# Altium footprint library SolarNode.PcbLib: 76 footprints (part 3 of 5)
Each footprint in its own frame and in the unit in brackets; x right, y up, seen from the top. Pads: shape width x height; smd on the part's side, far side on the other; paste and mask are expansions set on the pad; w line width, h text height; cw(c..) or ccw(c..) is an arc to the next point about the centre after c.
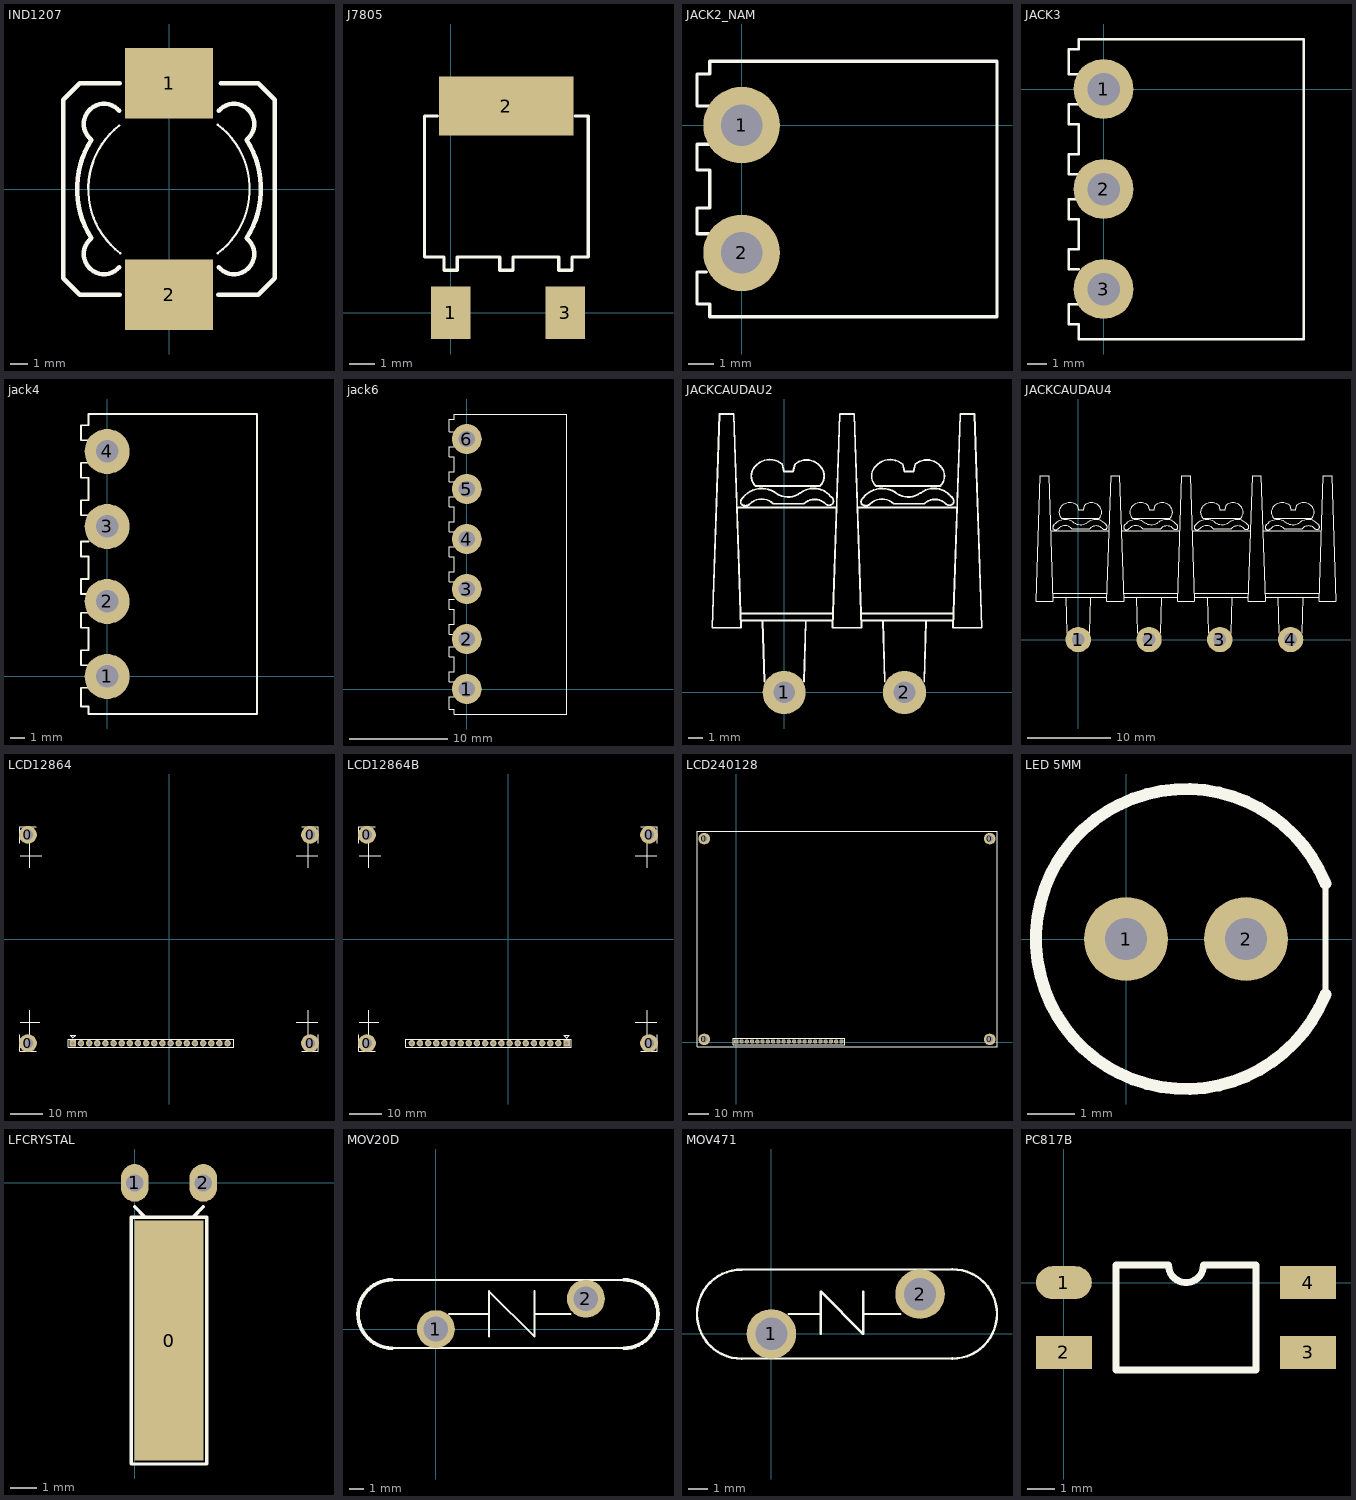
[diagram p2: the footprints below, top view; thin cyan lines are the x and y axes]

## IND1207 [mm] "inductor 1207"
pads (2):
  rect 5x4 smd: 1(0,6) 2(0,-6)
Top Overlay:
  lines w0.127: -2.825,3.595 ccw(c0,0) -2.763,-3.642 ; 2.763,-3.642 ccw(c0,0) 2.763,3.642
  lines w0.254: -4.427,-2.815 ccw(c-3.683,-3.683) -2.815,-4.427 ; -4.427,2.815 cw(c-3.683,3.683) -2.815,4.427 ; -4.395,-2.795 cw(c0,0) -4.395,2.795 ; -2.794,-6 -5.049,-6 -6,-5.049 -6,5.049 -5.049,6 -2.794,6 ; 2.794,-6 5.049,-6 6,-5.049 6,5.049 5.049,6 2.921,6 ; 2.815,-4.427 ccw(c3.683,-3.683) 4.427,-2.815 ; 2.815,4.427 cw(c3.683,3.683) 4.427,2.815 ; 4.395,-2.795 ccw(c0,0) 4.395,2.795

## J7805 [mil]
pads (3):
  rect 60x80 smd: 1(0,0) 3(175,0)
  rect 205x90 smd: 2(85,315)
Top Overlay:
  lines w5: -20,300 -40,300 -40,85 -10,85 -10,65 10,65 10,85 75,85 75,65 95,65 95,85 165,85 165,65 185,65 185,85 210,85 210,300 190,300

## JACK2_NAM [mil]
pads (2):
  round 120 hole 65: 1(0,0) 2(0,-200)
Top Overlay:
  lines w5: -55,-230 -70,-230 -70,-280 -50,-280 -50,-300 230,-300 400,-300 400,100 230,100 -50,100 -50,80 -70,80 -70,30 -50,30 ; -50,-170 -70,-170 -70,-130 -50,-130 -50,-70 -70,-70 -70,-60 -70,-30 -50,-30

## JACK3 [mil]
pads (3):
  round 120 hole 65: 1(0,0) 2(0,-200) 3(0,-400)
Top Overlay:
  lines w5: -50,-430 -70,-430 -70,-460 -70,-470 -50,-470 -50,-500 400,-500 400,100 230,100 -50,100 -50,80 -70,80 -70,30 -50,30 ; -50,-360 -70,-360 -70,-320 -50,-320 -50,-260 -70,-260 -70,-250 -70,-220 -50,-220 ; -50,-170 -70,-170 -70,-130 -50,-130 -50,-70 -70,-70 -70,-60 -70,-30 -50,-30

## jack4 [mil]
pads (4):
  round 120 hole 60: 1(0,0) 2(0,200) 3(0,400) 4(0,600)
Top Overlay:
  lines w5: -50,-30 -70,-30 -70,-80 -50,-80 -50,-100 230,-100 400,-100 400,700 -50,700 -50,670 -70,670 -70,660 -70,630 -50,630 ; -50,30 -70,30 -70,60 -70,70 -50,70 -50,130 -70,130 -70,170 -50,170 ; -50,220 -70,220 -70,250 -70,260 -50,260 -50,320 -70,320 -70,360 -50,360 ; -50,430 -70,430 -70,460 -70,470 -50,470 -50,530 -70,530 -70,570 -50,570

## jack6 [mil]
pads (6):
  round 120 hole 65: 1(0,0) 2(0,200) 3(0,400) 4(0,600) 5(0,800) 6(0,1000)
Top Overlay:
  lines w5: -55,1030 -70,1030 -70,1080 -50,1080 -50,1100 230,1100 400,1100 400,-100 230,-100 -50,-100 -50,-80 -70,-80 -70,-30 -50,-30 ; -50,30 -70,30 -70,60 -70,70 -50,70 -50,130 -70,130 -70,170 -50,170 ; -50,220 -70,220 -70,250 -70,260 -50,260 -50,320 -70,320 -70,360 -50,360 ; -50,430 -70,430 -70,460 -70,470 -50,470 -50,530 -70,530 -70,570 -50,570 ; -50,630 -70,630 -70,660 -70,670 -50,670 -50,730 -70,730 -70,770 -50,770 ; -50,830 -70,830 -70,860 -70,870 -50,870 -50,930 -70,930 -70,970 -50,970

## JACKCAUDAU2 [mil] "9.5mm 2 terminal block connnetor - screw M3"
pads (2):
  round 120 hole 60: 1(0,0) 2(335,0)
Top Overlay:
  lines w5: -130,515 145,515 ; -120,200 135,200 ; -120,220 135,220 ; -120,535 cw(c-61.97,499.86) -26.82,557.89 ccw(c10.5,600.99) 44.71,555.39 ; -116.18,541.18 ccw(c-105,530) -120,525 ccw(c-107.5,537.5) -95,525 cw(c-62.5,492.5) -30,525 55,525 cw(c85,495) 115,525 ccw(c125,535) 135,525 ccw(c122.5,532.5) 130,545 ccw(c82.5,507.5) 45,555 ; -60,200 -55,30 ; 55,30 60,200 ; 205,515 480,515 ; 215,200 470,200 ; 215,220 470,220 ; 215,535 cw(c273.04,499.86) 308.18,557.89 ccw(c345.5,600.99) 379.71,555.39 ; 218.82,541.18 ccw(c230,530) 215,525 ccw(c227.5,537.5) 240,525 cw(c272.5,492.5) 305,525 390,525 cw(c420,495) 450,525 ccw(c460,535) 470,525 ccw(c457.5,532.5) 465,545 ccw(c417.5,507.5) 380,555 ; 275,200 280,30 ; 390,30 395,200 ; -200,180 -180,775 -140,775 -120,180 -200,180 ; -80,575 cw(c-52.5,602.5) -80,630 cw(c-40,595) -5,635 0,615 25,615 30,635 cw(c62.5,597.5) 100,630 cw(c72.5,602.5) 100,575 -80,575 ; 135,180 155,775 195,775 215,180 135,180 ; 255,575 cw(c282.5,602.5) 255,630 cw(c295,595) 330,635 335,615 360,615 365,635 cw(c397.5,597.5) 435,630 cw(c407.5,602.5) 435,575 255,575 ; 470,180 490,775 530,775 550,180 470,180

## JACKCAUDAU4 [mil]
pads (4):
  round 120 hole 60: 1(0,0) 2(335,0) 3(670,0) 4(1005,0)
Top Overlay:
  lines w5: -130,515 145,515 ; -120,200 135,200 ; -120,220 135,220 ; -120,535 cw(c-61.97,499.86) -26.82,557.89 ccw(c10.5,600.99) 44.71,555.39 ; -116.18,541.18 ccw(c-105,530) -120,525 ccw(c-107.5,537.5) -95,525 cw(c-62.5,492.5) -30,525 55,525 cw(c85,495) 115,525 ccw(c125,535) 135,525 ccw(c122.5,532.5) 130,545 ccw(c82.5,507.5) 45,555 ; -60,200 -55,30 ; 55,30 60,200 ; 205,515 480,515 ; 215,200 470,200 ; 215,220 470,220 ; 215,535 cw(c273.04,499.86) 308.18,557.89 ccw(c345.5,600.99) 379.71,555.39 ; 218.82,541.18 ccw(c230,530) 215,525 ccw(c227.5,537.5) 240,525 cw(c272.5,492.5) 305,525 390,525 cw(c420,495) 450,525 ccw(c460,535) 470,525 ccw(c457.5,532.5) 465,545 ccw(c417.5,507.5) 380,555 ; 275,200 280,30 ; 390,30 395,200 ; 540,515 815,515 ; 550,200 805,200 ; 550,220 805,220 ; 550,535 cw(c608.03,499.86) 643.18,557.89 ccw(c680.5,600.99) 714.71,555.39 ; 553.82,541.18 ccw(c565,530) 550,525 ccw(c562.5,537.5) 575,525 cw(c607.5,492.5) 640,525 725,525 cw(c755,495) 785,525 ccw(c795,535) 805,525 ccw(c792.5,532.5) 800,545 ccw(c752.5,507.5) 715,555 ; 610,200 615,30 ; 725,30 730,200 ; 875,515 1150,515 ; 885,200 1140,200 ; 885,220 1140,220 ; 885,535 cw(c943.03,499.86) 978.18,557.89 ccw(c1015.5,600.99) 1049.71,555.39 ; 888.82,541.18 ccw(c900,530) 885,525 ccw(c897.5,537.5) 910,525 cw(c942.5,492.5) 975,525 1060,525 cw(c1090,495) 1120,525 ccw(c1130,535) 1140,525 ccw(c1127.5,532.5) 1135,545 ccw(c1087.5,507.5) 1050,555 ; 945,200 950,30 ; 1060,30 1065,200 ; -200,180 -120,180 -140,775 -180,775 -200,180 ; -80,575 cw(c-52.5,602.5) -80,630 cw(c-40,595) -5,635 0,615 25,615 30,635 cw(c62.5,597.5) 100,630 cw(c72.5,602.5) 100,575 -80,575 ; 135,180 215,180 195,775 155,775 135,180 ; 255,575 cw(c282.5,602.5) 255,630 cw(c295,595) 330,635 335,615 360,615 365,635 cw(c397.5,597.5) 435,630 cw(c407.5,602.5) 435,575 255,575 ; 470,180 550,180 530,775 490,775 470,180 ; 590,575 cw(c617.5,602.5) 590,630 cw(c630,595) 665,635 670,615 695,615 700,635 cw(c732.5,597.5) 770,630 cw(c742.5,602.5) 770,575 590,575 ; 805,180 885,180 865,775 825,775 805,180 ; 925,575 cw(c952.5,602.5) 925,630 cw(c965,595) 1000,635 1005,615 1030,615 1035,635 cw(c1067.5,597.5) 1105,630 cw(c1077.5,602.5) 1105,575 925,575 ; 1140,180 1220,180 1200,775 1160,775 1140,180

## LCD12864 [mil] "LCD 128x64"
pads (24):
  round 220 hole 125: 0(-1732.28,-1279.53) 0(-1732.28,1279.53) 0(1732.28,-1279.53) 0(1732.28,1279.53)
  rect 80x80 hole 45: 1(-1181.1,-1279.53)
  round 80 hole 45: 2(-1081.02,-1279.53) 3(-981.02,-1279.53) 4(-881.02,-1279.53) 5(-781.02,-1279.53) 6(-681.02,-1279.53) 7(-581.02,-1279.53) 8(-481.02,-1279.53) 9(-381.02,-1279.53) 10(-281.02,-1279.53) 11(-181.02,-1279.53) 12(-81.02,-1279.53) 13(18.98,-1279.53) 14(118.98,-1279.53) 15(218.98,-1279.53) 16(318.98,-1279.53) 17(418.98,-1279.53) 18(518.98,-1279.53) 19(618.98,-1279.53) 20(718.98,-1279.53)
Top Overlay:
  lines w5: -1240.16,-1329.53 -1240.16,-1229.53 793.9,-1229.53 793.9,-1329.53 -1240.16,-1329.53
  lines w10: -1830.71,-1177.95 -1830.71,-1377.95 -1630.71,-1377.95 ; -1830.71,1177.95 -1830.71,1377.95 ; -1830,1377.95 -1630.71,1377.95 ; 1630.71,-1377.95 1830.71,-1377.95 1830.71,-1177.95 ; 1630.71,1377.95 1830.71,1377.95 1830.71,1177.95 ; -1215,-1180 -1145,-1180 -1180,-1215 -1215,-1180
  lines w15: -1825,-1023.62 -1590,-1023.62 ; -1825,1023.62 -1562.6,1023.62 ; -1712.6,-1173.62 -1712.6,-873.62 ; -1712.6,873.62 -1712.6,1173.62 ; 1562.6,-1023.62 1825,-1023.62 ; 1562.6,1023.62 1825,1023.62 ; 1712.6,-1173.62 1712.6,-873.62 ; 1712.6,873.62 1712.6,1173.62

## LCD12864B [mil] "LCD 128x64"
pads (24):
  round 220 hole 125: 0(-1732.28,-1279.53) 0(-1732.28,1279.53) 0(1732.28,-1279.53) 0(1732.28,1279.53)
  rect 80x80 hole 45: 1(718.98,-1279.53)
  round 80 hole 45: 2(618.9,-1279.53) 3(518.9,-1279.53) 4(418.9,-1279.53) 5(318.9,-1279.53) 6(218.9,-1279.53) 7(118.9,-1279.53) 8(18.9,-1279.53) 9(-81.1,-1279.53) 10(-181.1,-1279.53) 11(-281.1,-1279.53) 12(-381.1,-1279.53) 13(-481.1,-1279.53) 14(-581.1,-1279.53) 15(-681.1,-1279.53) 16(-781.1,-1279.53) 17(-881.1,-1279.53) 18(-981.1,-1279.53) 19(-1081.1,-1279.53) 20(-1181.1,-1279.53)
Top Overlay:
  lines w5: -1256.02,-1329.53 778.03,-1329.53 778.03,-1229.53 -1256.02,-1229.53 -1256.02,-1329.53
  lines w10: -1830.71,-1177.95 -1830.71,-1377.95 -1630.71,-1377.95 ; -1830.71,1177.95 -1830.71,1377.95 ; -1830,1377.95 -1630.71,1377.95 ; 1630.71,-1377.95 1830.71,-1377.95 1830.71,-1177.95 ; 1630.71,1377.95 1830.71,1377.95 1830.71,1177.95 ; 685,-1185 755,-1185 720,-1220 685,-1185
  lines w15: -1825,-1023.62 -1590,-1023.62 ; -1825,1023.62 -1562.6,1023.62 ; -1712.6,-1173.62 -1712.6,-873.62 ; -1712.6,873.62 -1712.6,1173.62 ; 1562.6,-1023.62 1825,-1023.62 ; 1562.6,1023.62 1825,1023.62 ; 1712.6,-1173.62 1712.6,-873.62 ; 1712.6,873.62 1712.6,1173.62

## LCD240128 [mil]
pads (25):
  round 220 hole 125: 0(-610.24,59.06) 0(-610.24,3877.95) 0(4822.83,59.06) 0(4822.83,3877.95)
  rect 80x80 hole 45: 1(0,19.68)
  round 80 hole 45: 2(100.08,19.68) 3(200.08,19.68) 4(300.08,19.68) 5(400.08,19.68) 6(500.08,19.68) 7(600.08,19.68) 8(700.08,19.68) 9(800.08,19.68) 10(900.08,19.68) 11(1000.08,19.68) 12(1100.08,19.68) 13(1200.08,19.68) 14(1300.08,19.68) 15(1400.08,19.68) 16(1500.08,19.68) 17(1600.08,19.68) 18(1700.08,19.68) 19(1800.08,19.68) 20(1900.08,19.68) 21(2000.08,19.68)
Top Overlay:
  lines w5: -748.03,-78.74 -748.03,4015.75 4960.63,4015.75 4960.63,-78.74 -748.03,-78.74 ; -59.06,-39.37 2066.93,-39.37 2066.93,78.74 -59.06,78.74 -59.06,-39.37

## LED 5MM [mil]
pads (2):
  round 70 hole 35: 1(0,0) 2(100,0)
Top Overlay:
  lines w5: 166.06,-46.42 166.06,46.42
  lines w10: 166.06,-46.42 cw(c50,0) 166.06,46.42

## LFCRYSTAL [mil]
pads (3):
  rect 100x350 smd: 0(50,-230)
  oval 40x55 hole 25: 1(0,0) 2(100,0)
Top Overlay:
  lines w5: 0,-35 15,-50 ; 85,-50 100,-35 ; -5,-410 105,-410 105,-50 -5,-50 -5,-410

## MOV20D [mil]
pads (2):
  round 100 hole 65: 1(0,0) 2(395,80)
Top Overlay:
  lines w5: -115,-50.28 495,-50.28 ; -115,129.72 495,129.72 ; 35,40 140,40 ; 140,-20 140,100 260,-20 260,100 ; 260,40 355,40
  lines w10: -115,-50.28 cw(c-115,39.72) -115,129.72 ; 495,-50.55 ccw(c495,39.58) 495,129.72

## MOV471 [mil]
pads (2):
  round 100 hole 65: 1(0,0) 2(300,80)
Top Overlay:
  lines w5: -60,-50.28 cw(c-60,39.72) -60,129.72 365,130 ; -60,-50 365,-49.72 ; 35,40 100,40 ; 100,0 100,85 185,0 185,85 ; 185,40 260,40 ; 365,-50 ccw(c365,40.14) 365,130.28

## PC817B [mil]
pads (4):
  oval 80x47.24 smd: 1(0,0)
  rect 80x47.24 smd: 2(0,-100) 3(350,-100) 4(350,0)
Top Overlay:
  lines w10: 75,-125 75,25 150,25 ccw(c175,25) 200,25 275,25 275,-125 75,-125